# Altium schematic symbol library PSK-5D-9.SchLib: 1 symbol
Pins are listed as number, name and electrical type; pins without a type are passive.

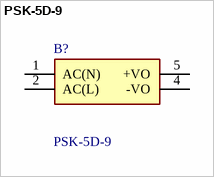
[diagram p0: symbol PSK-5D-9]

## PSK-5D-9
designator B?
AC/DC Power Modules ac-dc, 5 W, 9 Vdc, single output, encapsulated PCB, 85~305 Vac; Manufacturer_Name: CUI Inc.; Geometry.Height: 18.1mm; Mouser Part Number: 490-PSK-5D-9; Mouser Price/Stock: https://www.mouser.co.uk/ProductDetail/CUI-Inc/PSK-5D-9?qs=DRkmTr78QAS7xBfnsfADZA%3D%3D; Manufacturer_Part_Number: PSK-5D-9; Datasheet Link: *
footprint PSK5D9
pins: 1 AC(N), 2 AC(L), 4 -VO, 5 +VO